# Altium footprint library main.PcbLib: 10 footprints
Each footprint in its own frame and in the unit in brackets; x right, y up, seen from the top. Pads: shape width x height; smd on the part's side, far side on the other; paste and mask are expansions set on the pad; w line width, h text height; cw(c..) or ccw(c..) is an arc to the next point about the centre after c.
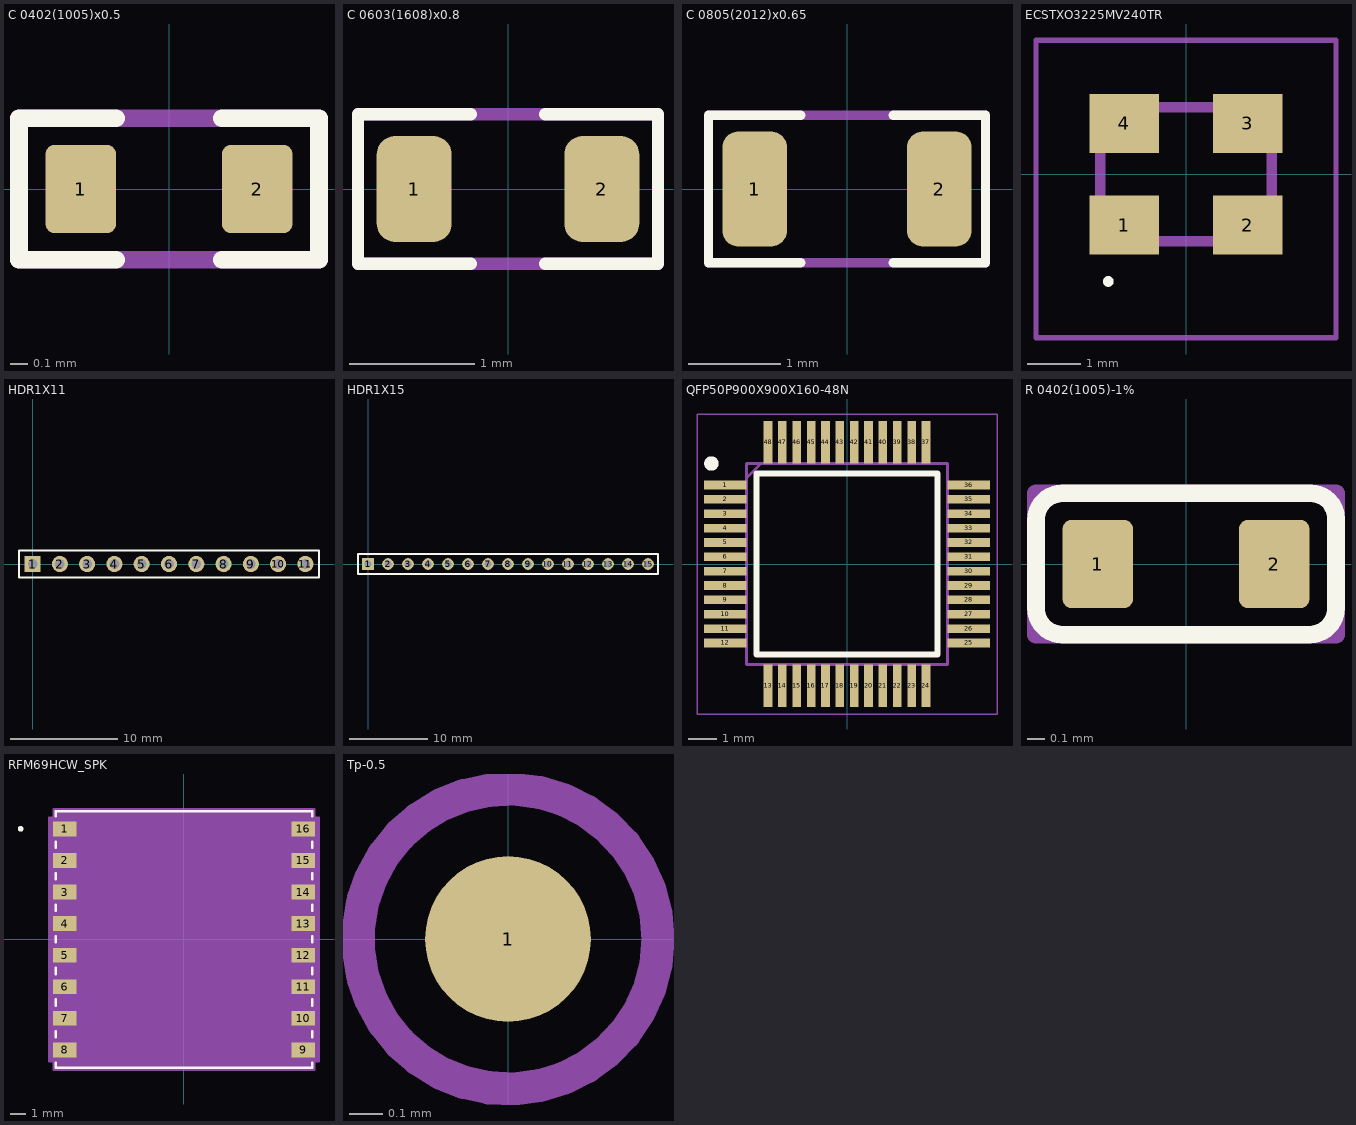
[diagram p0: the footprints below, top view; thin cyan lines are the x and y axes]

## C 0402(1005)x0.5 [mm]
pads (2):
  rrect25% 0.4x0.5 smd mask+0.102: 1(-0.5,0) 2(0.5,0)
Top Overlay:
  lines w0.1: -0.3,-0.4 -0.85,-0.4 -0.85,0.4 -0.3,0.4 ; 0.3,-0.4 0.85,-0.4 0.85,0.4 0.3,0.4
Top Courtyard:
  lines w0.1: -0.85,-0.4 -0.85,0.4 0.85,0.4 0.85,-0.4 -0.85,-0.4
3D body "Cap 0402(1005)x50N.STEP": height 0.51, standoff 0, extent -0.5,-0.25 0.5,0.25

## C 0603(1608)x0.8 [mm]
pads (2):
  rrect50% 0.6x0.85 smd: 1(-0.75,0) 2(0.75,0)
Top Overlay:
  lines w0.1: -0.3,-0.6 -1.2,-0.6 -1.2,0.6 -0.3,0.6 ; 0.3,-0.6 1.2,-0.6 1.2,0.6 0.3,0.6
Top Courtyard:
  lines w0.1: -1.2,-0.6 -1.2,0.6 1.2,0.6 1.2,-0.6 -1.2,-0.6
3D body "Cap 0603(1608)x80N.STEP": height 0.81, standoff 0, extent -0.8,-0.4 0.8,0.4

## C 0805(2012)x0.65 [mm]
pads (2):
  rrect50% 0.7x1.25 smd: 1(-1,0) 2(1,0)
Top Overlay:
  lines w0.1: -0.5,-0.8 -1.5,-0.8 -1.5,0.8 -0.5,0.8 ; 0.5,-0.8 1.5,-0.8 1.5,0.8 0.5,0.8
Top Courtyard:
  lines w0.1: -1.5,-0.8 -1.5,0.8 1.5,0.8 1.5,-0.8 -1.5,-0.8
3D body "Cap 0805(2012)x65N.STEP": height 0.66, standoff 0, extent -1,-0.625 1,0.625

## ECSTXO3225MV240TR [mm]
pads (4):
  rect 1.3x1.1 smd: 1(-1.15,-0.95) 2(1.15,-0.95) 3(1.15,0.95) 4(-1.15,0.95)
Top Overlay:
  lines w0.1: -1.5,-2 cw(c-1.45,-2) -1.4,-2 cw(c-1.45,-2) -1.5,-2
Mechanical 13:
  lines w0.2: -1.6,-1.25 -1.6,1.25 1.6,1.25 1.6,-1.25 -1.6,-1.25
Mechanical 15:
  lines w0.1: -2.8,-3.05 -2.8,2.5 2.8,2.5 2.8,-3.05 -2.8,-3.05
3D body "ECS-TXO-3225MV-240-TR.stp": height 1.3, standoff 0, extent -1.69,-1.39 1.69,1.39

## HDR1X11 [mm]
pads (11):
  rect 1.5x1.5 hole 0.9: 1(0,0)
  round 1.5 hole 0.9: 2(2.54,0) 3(5.08,0) 4(7.62,0) 5(10.16,0) 6(12.7,0) 7(15.24,0) 8(17.78,0) 9(20.32,0) 10(22.86,0) 11(25.4,0)
Top Overlay:
  lines w0.2: -1.27,-1.27 26.67,-1.27 26.67,1.27 0.635,1.27 -1.27,1.27 -1.27,-1.27

## HDR1X15 [mm]
pads (15):
  rect 1.5x1.5 hole 0.9: 1(0,0)
  round 1.5 hole 0.9: 2(2.54,0) 3(5.08,0) 4(7.62,0) 5(10.16,0) 6(12.7,0) 7(15.24,0) 8(17.78,0) 9(20.32,0) 10(22.86,0) 11(25.4,0) 12(27.94,0) 13(30.48,0) 14(33.02,0) 15(35.56,0)
Top Overlay:
  lines w0.2: -1.27,-1.27 -1.27,1.27 0.635,1.27 36.83,1.27 36.83,-1.27 -1.27,-1.27

## QFP50P900X900X160-48N [mm]
pads (48):
  rect 1.475x0.3 smd: 1(-4.238,2.75) 2(-4.238,2.25) 3(-4.238,1.75) 4(-4.238,1.25) 5(-4.238,0.75) 6(-4.238,0.25) 7(-4.238,-0.25) 8(-4.238,-0.75) 9(-4.238,-1.25) 10(-4.238,-1.75) 11(-4.238,-2.25) 12(-4.238,-2.75) 25(4.238,-2.75) 26(4.238,-2.25) 27(4.238,-1.75) 28(4.238,-1.25) 29(4.238,-0.75) 30(4.238,-0.25) 31(4.238,0.25) 32(4.238,0.75) 33(4.238,1.25) 34(4.238,1.75) 35(4.238,2.25) 36(4.238,2.75)
  rect 0.3x1.475 smd: 13(-2.75,-4.238) 14(-2.25,-4.238) 15(-1.75,-4.238) 16(-1.25,-4.238) 17(-0.75,-4.238) 18(-0.25,-4.238) 19(0.25,-4.238) 20(0.75,-4.238) 21(1.25,-4.238) 22(1.75,-4.238) 23(2.25,-4.238) 24(2.75,-4.238) 37(2.75,4.238) 38(2.25,4.238) 39(1.75,4.238) 40(1.25,4.238) 41(0.75,4.238) 42(0.25,4.238) 43(-0.25,4.238) 44(-0.75,4.238) 45(-1.25,4.238) 46(-1.75,4.238) 47(-2.25,4.238) 48(-2.75,4.238)
Top Overlay:
  circle w0.25: c-4.725,3.5 r0.125
  lines w0.2: -3.15,-3.15 -3.15,3.15 3.15,3.15 3.15,-3.15 -3.15,-3.15
Mechanical 13:
  lines w0.1: -3.5,3 -3,3.5 ; -3.5,-3.5 -3.5,3.5 3.5,3.5 3.5,-3.5 -3.5,-3.5
Mechanical 15:
  lines w0.05: -5.225,-5.225 -5.225,5.225 5.225,5.225 5.225,-5.225 -5.225,-5.225
3D body "STM32L4Q5CGT6.stp": height 1.6, standoff 0, extent -4.5,-4.5 4.5,4.5

## R 0402(1005)-1% [mm]
pads (2):
  rrect25% 0.4x0.5 smd mask+0.102: 1(-0.5,0) 2(0.5,0)
Top Overlay:
  lines w0.1: -0.85,-0.25 ccw(c-0.7,-0.25) -0.7,-0.4 0.7,-0.4 ccw(c0.7,-0.25) 0.85,-0.25 0.85,0.258 ccw(c0.708,0.258) 0.708,0.4 -0.7,0.4 ccw(c-0.7,0.25) -0.85,0.25 -0.85,-0.25
Top Courtyard:
  lines w0.1: -0.85,-0.4 -0.85,0.4 0.85,0.4 0.85,-0.4 -0.85,-0.4
3D body "SMD R-0402-1%.STEP": height 0.19, standoff -0.18, extent -0.5,-0.25 0.5,0.25

## RFM69HCW_SPK [mm]
pads (16):
  rect 1.494x0.941 smd paste+0 mask+0: 1(-7.554,7) 2(-7.554,5) 3(-7.554,3) 4(-7.554,1) 5(-7.554,-1) 6(-7.554,-3) 7(-7.554,-5) 8(-7.554,-7) 9(7.554,-7) 10(7.554,-5) 11(7.554,-3) 12(7.554,-1) 13(7.554,1) 14(7.554,3) 15(7.554,5) 16(7.554,7)
Top Overlay:
  circle w0.152: c-10.352,7 r0.102
  lines w0.152: -8.128,-7.803 -8.128,-8.128 8.128,-8.128 8.128,-7.803 ; -8.128,-6.197 -8.128,-5.803 ; -8.128,-4.197 -8.128,-3.803 ; -8.128,-2.197 -8.128,-1.803 ; -8.128,-0.197 -8.128,0.197 ; -8.128,1.803 -8.128,2.197 ; -8.128,3.803 -8.128,4.197 ; -8.128,5.803 -8.128,6.197 ; -8.128,7.803 -8.128,8.128 8.128,8.128 8.128,7.803 ; 8.128,-6.197 8.128,-5.803 ; 8.128,-4.197 8.128,-3.803 ; 8.128,-2.197 8.128,-1.803 ; 8.128,-0.197 8.128,0.197 ; 8.128,1.803 8.128,2.197 ; 8.128,3.803 8.128,4.197 ; 8.128,5.803 8.128,6.197
Mechanical 13:
  circle w0: c-6.807,7 r0.076
  lines w0: -0.305,8.001 ccw(c0,8.001) 0.305,8.001
  lines w0.025: -8.001,-8.001 -8.001,8.001 8.001,8.001 8.001,-8.001 -8.001,-8.001
Mechanical 15:
  region: -8.255,-7.724 -8.555,-7.724 -8.555,7.724 -8.255,7.724 -8.255,8.255 8.255,8.255 8.255,7.724 8.555,7.724 8.555,-7.724 8.255,-7.724 8.255,-8.255 -8.255,-8.255
  lines w0.152: -8.555,-7.724 -8.255,-7.724 -8.255,-8.255 8.255,-8.255 8.255,-7.724 8.555,-7.724 8.555,7.724 8.255,7.724 8.255,8.255 -8.255,8.255 -8.255,7.724 -8.555,7.724 -8.555,-7.724
3D body "RFM69HCW_SPK.step": height 1.81, standoff 0, extent -8.001,-8.001 8.001,8.001

## Tp-0.5 [mm]
pads (1):
  round 0.5 smd paste-0.2: 1(0,0)
Top Courtyard:
  circle w0.1: c0,0 r0.453